# Altium schematic symbol library Components - 25.03.23 - 19.23.SchLib: 1 symbol
Pins are listed as number, name and electrical type; pins without a type are passive.

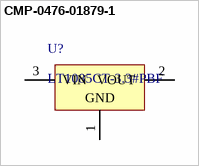
[diagram p0: symbol CMP-0476-01879-1]

## CMP-0476-01879-1
designator U?, comment LT1085CT-3.3#PBF
3 A Low Dropout Positive Regulator, 4.3 to 25 V Vin, 3.3 V Vout, 3-pin FM (T-3), 0 to 150 degC, Pb-Free; Manufacturer: Linear Technology; Vin Min(V): 4.3; Dropout Voltage(V): 1.3; Output Voltage: 3.3 V; Vin Max(V): 25; Number of Outputs: 1; Isupply(mA): 5; Discrete Pass Element: no; PSRR(dB): 72; Iout(mA): 3000; ComponentLink1URL: http://www.linear.com/; ComponentLink2Description: Datasheet; RoHS: TRUE; DatasheetVersion: Rev. D; PartNumber: LT1085CT-3.3#PBF; Mounting Technology: Through Hole; ComponentLink3URL: http://cds.linear.com/docs/en/packaging/TO-220_3_05-08-1420.pdf; ComponentLink3Description: Package Specification; PackageDescription: 3-Pin Plastic TO-220, Body 10.2235 x 4.3815 mm, Pitch 2.54 mm; ComponentLink2URL: http://cds.linear.com/docs/en/datasheet/1083ffd.pdf; ComponentLink1Description: Manufacturer URL; PackageReference: T-3; PackageVersion: Jun-10
footprint LT-T-3 (T, 3-Leads, Body 10.55x4.6mm, Pitch 2.54mm)
pins: 1 GND (power), 2 VOUT (power), 3 VIN (power)